# EAGLE library part HARWIN_8PIN (library DSDEagleLibrary)
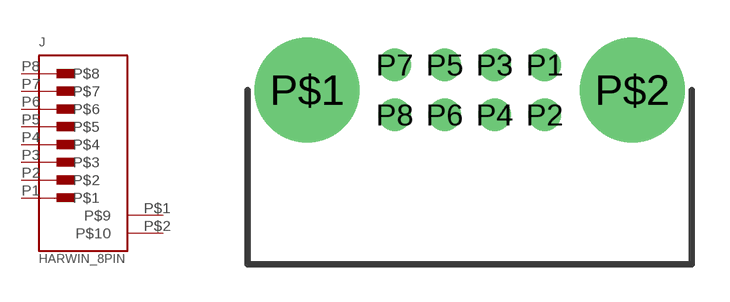
[diagram p10: symbol with the pads of HARWIN_8PIN; footprint HARWIN_8PIN]

Designator prefix J

## HARWIN_8PIN  [HARWIN_8PIN]
P1  P$1
P2  P$2
P3  P$3
P4  P$4
P5  P$5
P6  P$6
P7  P$7
P8  P$8
P$1  P$9
P$2  P$10

## Footprint HARWIN_8PIN (pad centres in mm)
drill 0.8: P1 3,1; P2 3,-1; P3 1,1; P4 1,-1; P5 -1,1; P6 -1,-1; P7 -3,1; P8 -3,-1
drill 2.2 pad 4.2: P$1 -6.5,0; P$2 6.5,0